# Altium integrated library Integrated_Library1.IntLib: 1 symbol
Pins are listed as number, name and electrical type; pins without a type are passive.

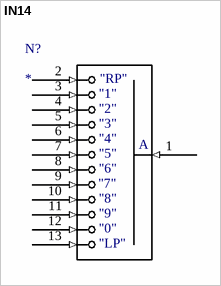
[diagram p0: symbol IN14]

## IN14
designator N?
footprint IN14
pins: 1 (in), 2 (in), 3 (in), 4 (in), 5 (in), 6 (in), 7 (in), 8 (in), 9 (in), 10 (in), 11 (in), 12 (in), 13 (in)
text: "RP"; "1"; "2"; "3"; "4"; A; "5"; "6"; "7"; "8"; "9"; "0"; "LP"